# EAGLE library part 74HCT02D (library NXP_By_element14_Batch_1)
Quad 2-input NOR gate
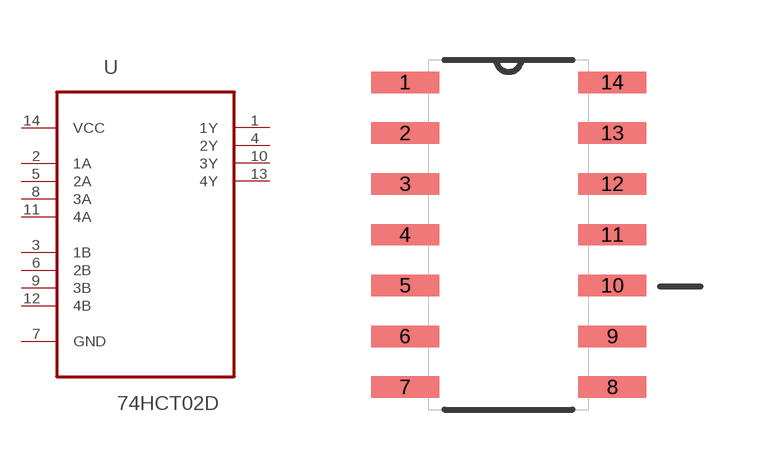
[diagram p163: symbol with the pads of SOIC127P600X175-14N; footprint SOIC127P600X175-14N]

Designator prefix U

## 74HCT02D (MPN: 74HCT02D; OC_FARNELL: 1085298; OC_NEWARK: 99K0536; P1I: o; PACKAGE: SOIC-14; SUPPLIER: NXP)  [SOIC127P600X175-14N]
1  1Y  out
2  1A  in
3  1B  in
4  2Y  out
5  2A  in
6  2B  in
7  GND  pas
8  3A  in
9  3B  in
10  3Y  out
11  4A  in
12  4B  in
13  4Y  out
14  VCC  pwr

## Footprint SOIC127P600X175-14N (pad centres in mm)
smd 1.702 x 0.533: 1 -2.591,3.81; 2 -2.591,2.54; 3 -2.591,1.27; 4 -2.591,0; 5 -2.591,-1.27; 6 -2.591,-2.54; 7 -2.591,-3.81; 8 2.591,-3.81; 9 2.591,-2.54; 10 2.591,-1.27; 11 2.591,0; 12 2.591,1.27; 13 2.591,2.54; 14 2.591,3.81